# EAGLE library part 74HC04_PTH (library SamacSys_Parts)
Inverter IC 6 Channel 14-DIP Source: Datasheet <https://media.digikey.com/pdf/Data Sheets/NXP PDFs/74HC_HCT04_Rev_4.pdf>
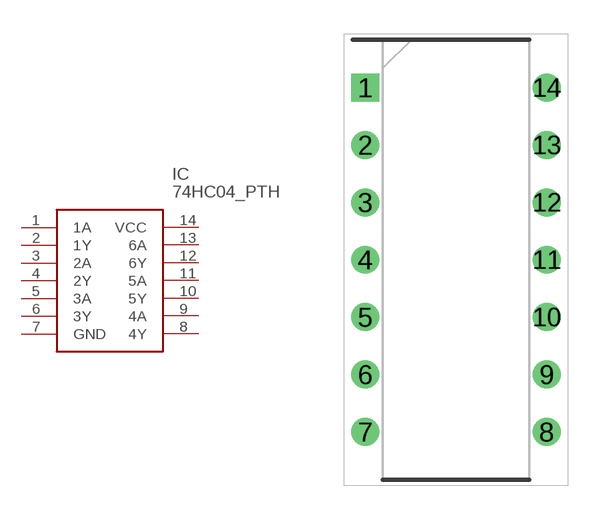
[diagram p7: symbol with the pads of DIP802W53P254L1902H420Q14N; footprint DIP802W53P254L1902H420Q14N]

Designator prefix IC

## 74HC04_PTH (ARROW_PART_NUMBER: 74HC04N,652; ARROW_PRICE-STOCK: https://www.arrow.com/en/products/74hc04n652/nexperia; DESCRIPTION: Inverter IC 6 Channel 14-DIP; HEIGHT: 4.2mm; MANUFACTURER_NAME: Nexperia; MANUFACTURER_PART_NUMBER: 74HC04N,652)  [DIP802W53P254L1902H420Q14N]
1  1A
2  1Y
3  2A
4  2Y
5  3A
6  3Y
7  GND
8  4Y
9  4A
10  5Y
11  5A
12  6Y
13  6A
14  VCC

## Footprint DIP802W53P254L1902H420Q14N (pad centres in mm)
DIP-14-1
drill 0.73 pad 1.13 square: 1 -4.012,7.62
drill 0.73 pad 1.13: 2 -4.012,5.08; 3 -4.012,2.54; 4 -4.012,0; 5 -4.012,-2.54; 6 -4.012,-5.08; 7 -4.012,-7.62; 8 4.012,-7.62; 9 4.012,-5.08; 10 4.012,-2.54; 11 4.012,0; 12 4.012,2.54; 13 4.012,5.08; 14 4.012,7.62